# EAGLE library part FTSH-105* (library NewSDR)
SAMTEC SMT MICRO HEADER
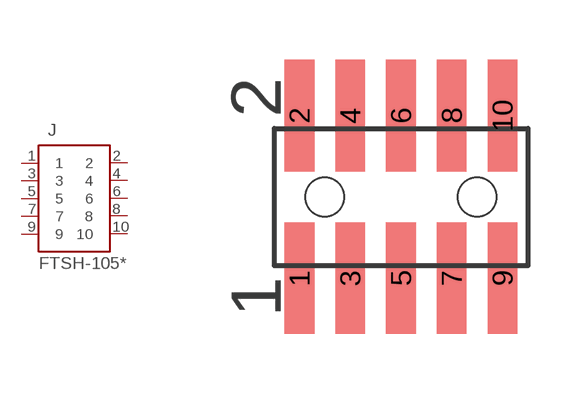
[diagram p190: symbol with the pads of FTSH-1; footprint FTSH-1]

Designator prefix J

## FTSH-105-01-L-DV-K  [FTSH-1]
1  1  pas
2  2  pas
3  3  pas
4  4  pas
5  5  pas
6  6  pas
7  7  pas
8  8  pas
9  9  pas
10  10  pas

## Footprint FTSH-1 (pad centres in mm)
SAMTEC SMT MICRO HEADER
smd 0.74 x 2.79: 1 -2.54,-2.035; 2 -2.54,2.035; 3 -1.27,-2.035; 4 -1.27,2.035; 5 0,-2.035; 6 0,2.035; 7 1.27,-2.035; 8 1.27,2.035; 9 2.54,-2.035; 10 2.54,2.035
hole 0.97 at -1.905,0
hole 0.97 at 1.905,0